# Altium footprint library PCB - Leaded - SOD - SOD-323.PCBLIB: 1 footprints
Each footprint in its own frame and in the unit in brackets; x right, y up, seen from the top. Pads: shape width x height; smd on the part's side, far side on the other; paste and mask are expansions set on the pad; w line width, h text height; cw(c..) or ccw(c..) is an arc to the next point about the centre after c.
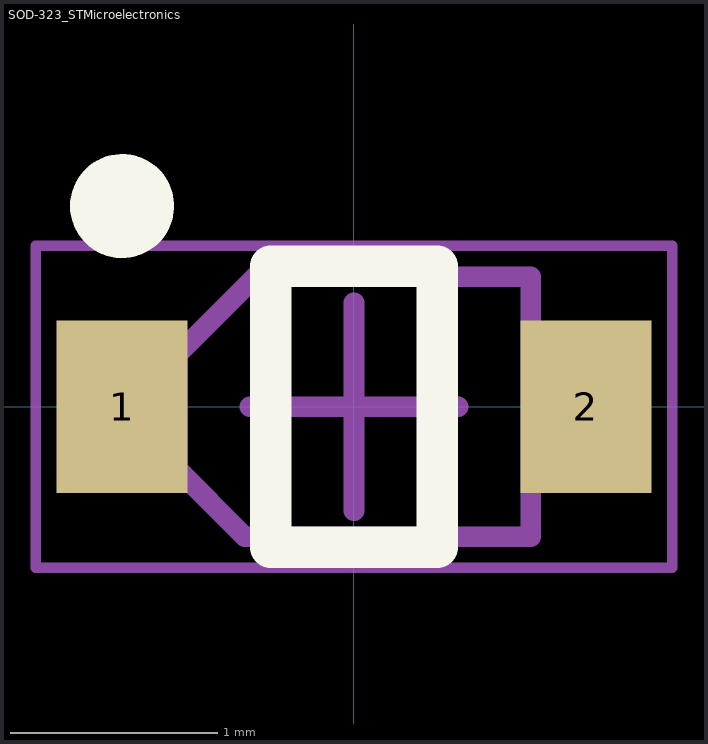
[diagram p0: the footprint, top view; thin cyan lines are the x and y axes]

## SOD-323_STMicroelectronics [mm] "SOD, 2-Leads, Body 1.7x1.25mm"
height 1.062
pads (2):
  rect 0.63x0.83 smd: 1(-1.115,0) 2(1.115,0)
Top Overlay:
  circle w0.25: c-1.115,0.965 r0.125
  lines w0.2: -0.4,-0.675 -0.4,0.675 0.4,0.675 0.4,-0.675 -0.4,-0.675
M5 Assembly Top:
  lines w0.1: -0.85,-0.3 -0.525,-0.625 0.85,-0.625 0.85,0.625 -0.475,0.625 -0.85,0.25 -0.85,-0.3
  text ".Designator" at -0.724,-0.3 h0.51
Mechanical 15:
  lines w0.05: -1.53,-0.775 -1.53,0.775 1.53,0.775 1.53,-0.775 -1.53,-0.775
  lines w0.1: -0.5,0 0.5,0 ; 0,-0.5 0,0.5
3D body: height 1.06, standoff 0, extent -0.85,-0.625 0.85,0.625